# Altium footprint library M4QIDB-PCB-01.PcbLib: 64 footprints (part 4 of 4)
Each footprint in its own frame and in the unit in brackets; x right, y up, seen from the top. Pads: shape width x height; smd on the part's side, far side on the other; paste and mask are expansions set on the pad; w line width, h text height; cw(c..) or ccw(c..) is an arc to the next point about the centre after c.
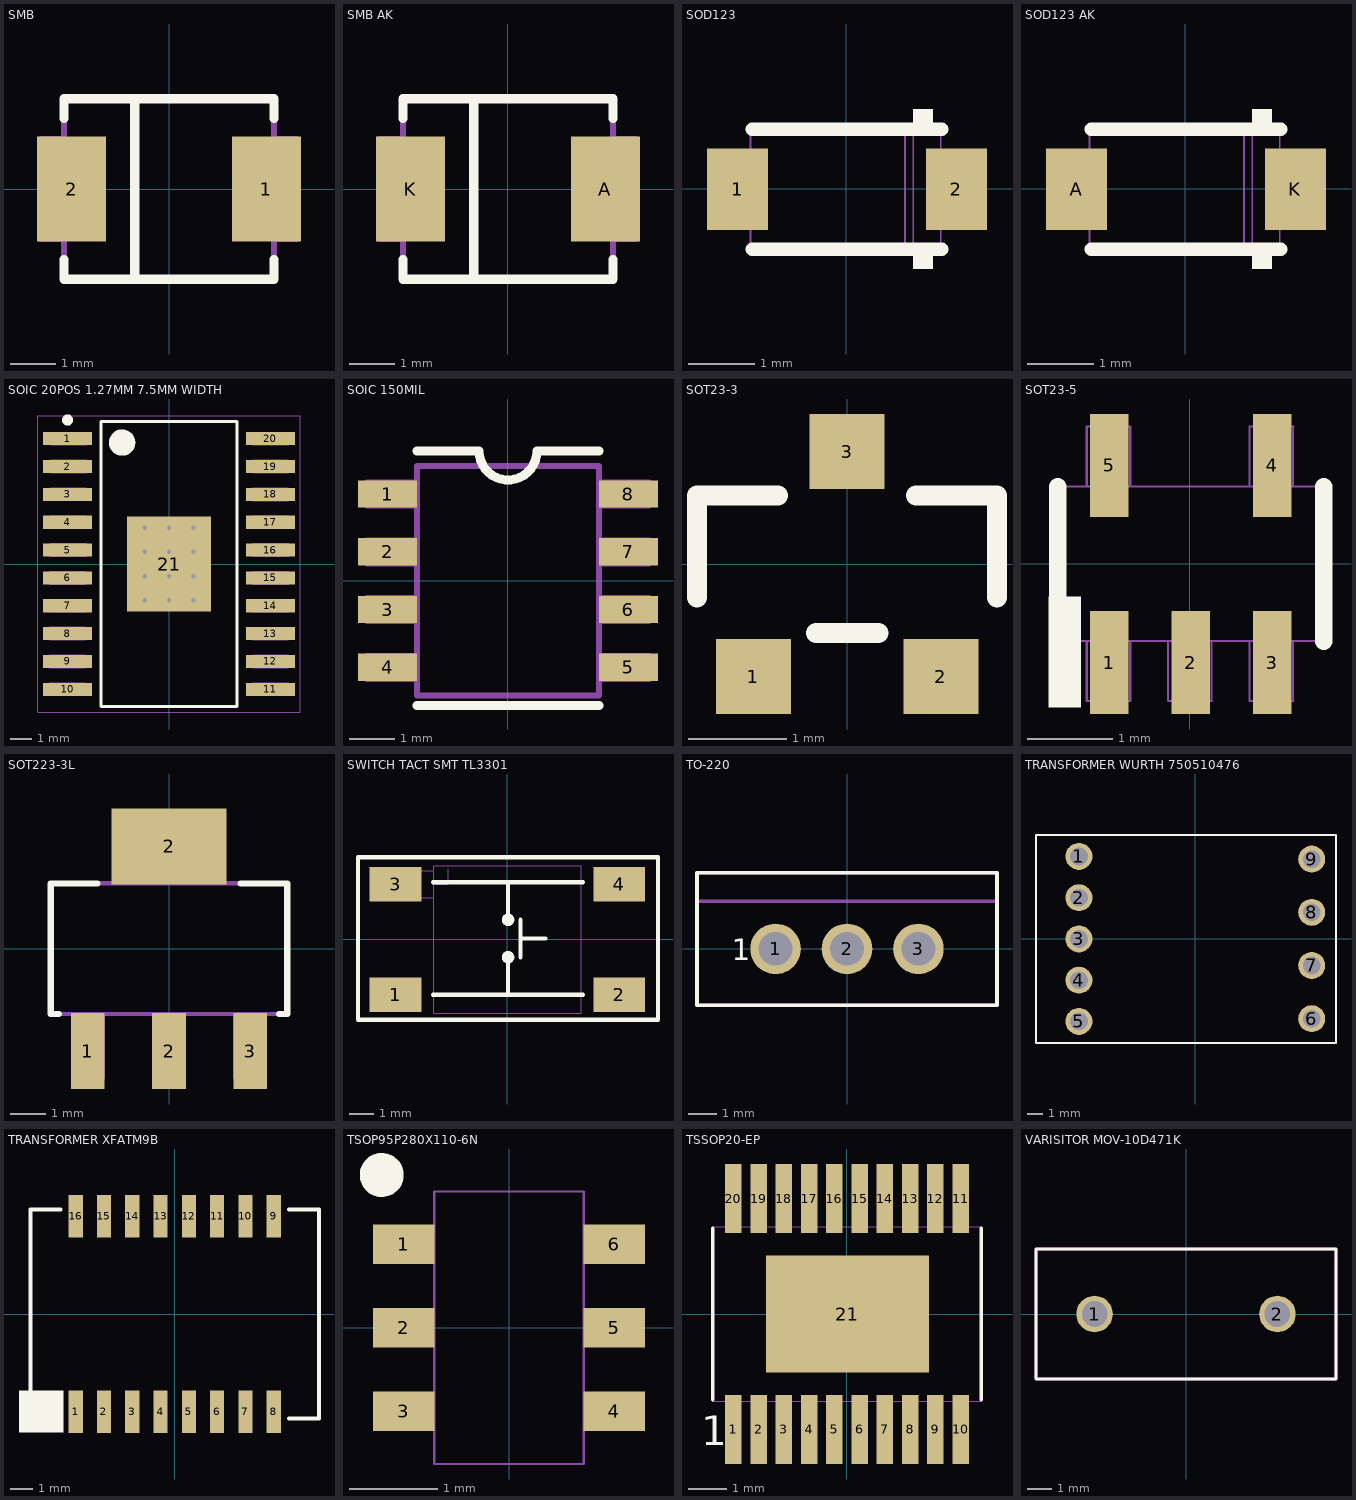
[diagram p3: the footprints below, top view; thin cyan lines are the x and y axes]

## SMB [mm]
pads (2):
  rect 1.52x2.3 smd: 1(2.135,0) 2(-2.135,0)
Top Overlay:
  lines w0.2: -0.75,-1.975 -0.75,1.975
  lines w0.203: -2.3,-1.543 -2.3,-1.975 2.3,-1.975 2.3,-1.543 ; -2.3,1.543 -2.3,1.975 2.3,1.975 2.3,1.543
Mechanical 7:
  lines w0.127: -2.311,-1.1 -2.8,-1.1 -2.8,1.1 -2.308,1.1 -2.3,1.092 ; 2.308,-1.1 2.8,-1.1 2.8,1.1 2.311,1.1 ; -2.3,-1.975 -2.3,1.975 2.3,1.975 2.3,-1.975 -2.3,-1.975
3D body: height 1.2, standoff 0, extent 2.308,-1.1 2.8,1.1
3D body: height 1.2, standoff 0, extent -2.8,-1.1 -2.308,1.1
3D body: height 2.65, standoff 2.65, extent -1.473,-1.975 -1.321,1.975
3D body: height 2.65, standoff 0, extent -2.3,-1.975 2.3,1.975

## SMB AK [mm]
pads (2):
  rect 1.52x2.3 smd: A(2.135,0) K(-2.135,0)
Top Overlay:
  lines w0.2: -0.75,-1.975 -0.75,1.975
  lines w0.203: -2.3,-1.543 -2.3,-1.975 2.3,-1.975 2.3,-1.543 ; -2.3,1.543 -2.3,1.975 2.3,1.975 2.3,1.543
Mechanical 7:
  lines w0.127: -2.311,-1.1 -2.8,-1.1 -2.8,1.1 -2.308,1.1 -2.3,1.092 ; 2.308,-1.1 2.8,-1.1 2.8,1.1 2.311,1.1 ; -2.3,-1.975 2.3,-1.975 2.3,1.975 -2.3,1.975 -2.3,-1.975
3D body: height 2.65, standoff 0, extent -2.3,-1.975 2.3,1.975
3D body: height 2.65, standoff 2.65, extent -1.473,-1.975 -1.321,1.975
3D body: height 1.2, standoff 0, extent -2.8,-1.1 -2.308,1.1
3D body: height 1.2, standoff 0, extent 2.308,-1.1 2.8,1.1

## SOD123 [mil]
pads (2):
  rect 36x48 smd: 1(-64.09,-0.13) 2(64.91,-0.13)
Top Overlay:
  rectangle: 39.37,-47.24 51.18,-35.63
  rectangle: 39.37,35.37 51.18,47.24
  lines w8: -55.59,-35.63 56.41,-35.63 ; -55.59,35.37 56.41,35.37 ; 31.91,-35.63 35.85,-35.63
Mechanical 7:
  lines w1: -56.51,-9.81 -56.51,-10.63 -76.2,-10.63 -76.2,11.02 -56.51,11.02 -56.51,10.19 ; 34.59,-33.4 34.59,33.66 ; 39.59,-33.4 39.59,33.66 ; 55.69,-9.81 55.69,-10.63 75.38,-10.63 75.38,11.02 55.69,11.02 55.69,10.19 ; -56.51,-33.4 -56.51,33.53 -56.51,33.66 55.69,33.66 55.69,-33.27 55.69,-33.4 -56.51,-33.4
3D body: height 57.09, standoff 3.94, extent 39.59,-33.4 55.69,33.66
3D body: height 57.09, standoff 3.94, extent -56.51,-33.4 34.59,33.59
3D body: height 57.09, standoff 39.37, extent -56.51,33.59 34.59,33.66
3D body: height 57.09, standoff 3.94, extent 34.59,-33.4 39.59,33.66
3D body: height 13.78, standoff 0, extent -76.2,-10.63 -56.51,11.02
3D body: height 13.78, standoff 0, extent 55.69,-10.63 75.38,11.02

## SOD123 AK [mil]
pads (2):
  rect 36x48 smd: A(-64.09,-0.13) K(64.91,-0.13)
Top Overlay:
  rectangle: 39.37,35.37 51.18,47.24
  rectangle: 39.37,-47.24 51.18,-35.63
  lines w8: -55.59,-35.63 56.41,-35.63 ; -55.59,35.37 56.41,35.37 ; 31.91,-35.63 35.85,-35.63
Mechanical 7:
  lines w1: -56.51,-9.81 -56.51,-10.63 -76.2,-10.63 -76.2,11.02 -56.51,11.02 -56.51,10.19 ; 34.59,-33.4 34.59,33.66 ; 39.59,-33.4 39.59,33.66 ; 55.69,-9.81 55.69,-10.63 75.38,-10.63 75.38,11.02 55.69,11.02 55.69,10.19 ; -56.51,-33.4 55.69,-33.4 55.69,-33.27 55.69,33.66 -56.51,33.66 -56.51,33.53 -56.51,-33.4
3D body: height 13.78, standoff 0, extent 55.69,-10.63 75.38,11.02
3D body: height 13.78, standoff 0, extent -76.2,-10.63 -56.51,11.02
3D body: height 57.09, standoff 3.94, extent 34.59,-33.4 39.59,33.66
3D body: height 57.09, standoff 39.37, extent -56.51,33.59 34.59,33.66
3D body: height 57.09, standoff 3.94, extent -56.51,-33.4 34.59,33.59
3D body: height 57.09, standoff 3.94, extent 39.59,-33.4 55.69,33.66

## SOIC 20POS 1.27MM 7.5MM WIDTH [mm] "SOIC, 20-Leads, Body 12.82x7.52mm, Pitch 1.27mm, Thermal Pad 4.32.2x3.81.2mm, IPC Medium Density"
height 2.65
pads (21):
  rect 2.25x0.6 smd: 1(-4.625,5.715) 2(-4.625,4.445) 3(-4.625,3.175) 4(-4.625,1.905) 5(-4.625,0.635) 6(-4.625,-0.635) 7(-4.625,-1.905) 8(-4.625,-3.175) 9(-4.625,-4.445) 10(-4.625,-5.715) 11(4.625,-5.715) 12(4.625,-4.445) 13(4.625,-3.175) 14(4.625,-1.905) 15(4.625,-0.635) 16(4.625,0.635) 17(4.625,1.905) 18(4.625,3.175) 19(4.625,4.445) 20(4.625,5.715)
  rect 3.81x4.32 smd: 21(0,0)
via -1.1,1.65 diameter 0.5 hole 0.2
via 0,1.65 diameter 0.5 hole 0.2
via 1.1,1.65 diameter 0.5 hole 0.2
via -1.1,0.55 diameter 0.5 hole 0.2
via 0,0.55 diameter 0.5 hole 0.2
via 1.1,0.55 diameter 0.5 hole 0.2
via -1.1,-0.55 diameter 0.5 hole 0.2
via 0,-0.55 diameter 0.5 hole 0.2
via 1.1,-0.55 diameter 0.5 hole 0.2
via -1.1,-1.65 diameter 0.5 hole 0.2
via 0,-1.65 diameter 0.5 hole 0.2
via 1.1,-1.65 diameter 0.5 hole 0.2
Top Overlay:
  circle w0.25: c-4.625,6.565 r0.125
  circle w0.6: c-2.137,5.536 r0.3
  lines w0.127: -3.1,-6.5 -3.1,6.5 3.1,6.5 3.1,-6.5 -3.1,-6.5
Mechanical 7:
  lines w0.127: -3.83,-5.965 -5.42,-5.965 -5.42,-5.465 -3.83,-5.465 ; -3.83,-4.695 -5.42,-4.695 -5.42,-4.195 -3.83,-4.195 ; -3.83,-3.425 -5.42,-3.425 -5.42,-2.925 -3.83,-2.925 ; -3.83,-2.155 -5.42,-2.155 -5.42,-1.655 -3.83,-1.655 ; -3.83,-0.885 -5.42,-0.885 -5.42,-0.385 -3.83,-0.385 ; -3.8,0.385 -5.39,0.385 -5.39,0.885 -3.8,0.885 ; -3.8,1.655 -5.39,1.655 -5.39,2.155 -3.8,2.155 ; -3.8,2.925 -5.39,2.925 -5.39,3.425 -3.8,3.425 ; -3.8,4.195 -5.39,4.195 -5.39,4.695 -3.8,4.695 ; -3.8,5.465 -5.39,5.465 -5.39,5.965 -3.8,5.965 ; 3.83,-5.965 5.42,-5.965 5.42,-5.465 3.83,-5.465 ; 3.83,-4.695 5.42,-4.695 5.42,-4.195 3.83,-4.195 ; 3.83,-3.425 5.42,-3.425 5.42,-2.925 3.83,-2.925 ; 3.83,-2.155 5.42,-2.155 5.42,-1.655 3.83,-1.655 ; 3.83,-0.885 5.42,-0.885 5.42,-0.385 3.83,-0.385 ; 3.83,0.385 5.42,0.385 5.42,0.885 3.83,0.885 ; 3.83,1.655 5.42,1.655 5.42,2.155 3.83,2.155 ; 3.83,2.925 5.42,2.925 5.42,3.425 3.83,3.425 ; 3.83,4.195 5.42,4.195 5.42,4.695 3.83,4.695 ; 3.83,5.465 5.42,5.465 5.42,5.965 3.83,5.965
Mechanical 15:
  lines w0.05: -5.975,-6.75 5.975,-6.75 5.975,6.75 -5.975,6.75 -5.975,-6.75
  lines w0.1: -0.5,0 0.5,0 ; 0,-0.5 0,0.5
3D body: height 2.65, standoff 0.25, extent -3.8,-6.5 3.8,6.5
3D body: height 2.66, standoff 2.65, extent -2.998,5.237 -2.4,5.836
3D body: height 1, standoff 0, extent -5.39,5.465 -3.8,5.965
3D body: height 1, standoff 0, extent -5.39,4.195 -3.8,4.695
3D body: height 1, standoff 0, extent -5.39,2.925 -3.8,3.425
3D body: height 1, standoff 0, extent -5.39,1.655 -3.8,2.155
3D body: height 1, standoff 0, extent -5.39,0.385 -3.8,0.885
3D body: height 1, standoff 0, extent -5.42,-5.965 -3.83,-5.465
3D body: height 1, standoff 0, extent -5.42,-4.695 -3.83,-4.195
3D body: height 1, standoff 0, extent -5.42,-3.425 -3.83,-2.925
3D body: height 1, standoff 0, extent -5.42,-2.155 -3.83,-1.655
3D body: height 1, standoff 0, extent -5.42,-0.885 -3.83,-0.385
3D body: height 1, standoff 0, extent 3.83,-0.885 5.42,-0.385
3D body: height 1, standoff 0, extent 3.83,-2.155 5.42,-1.655
3D body: height 1, standoff 0, extent 3.83,-3.425 5.42,-2.925
3D body: height 1, standoff 0, extent 3.83,-4.695 5.42,-4.195
3D body: height 1, standoff 0, extent 3.83,-5.965 5.42,-5.465
3D body: height 1, standoff 0, extent 3.83,5.465 5.42,5.965
3D body: height 1, standoff 0, extent 3.83,4.195 5.42,4.695
3D body: height 1, standoff 0, extent 3.83,2.925 5.42,3.425
3D body: height 1, standoff 0, extent 3.83,1.655 5.42,2.155
3D body: height 1, standoff 0, extent 3.83,0.385 5.42,0.885

## SOIC 150MIL [mm]
pads (8):
  rect 1.3x0.6 smd: 1(-2.65,1.905) 2(-2.65,0.635) 3(-2.65,-0.635) 4(-2.65,-1.905) 5(2.65,-1.905) 6(2.65,-0.635) 7(2.65,0.635) 8(2.65,1.905)
Top Overlay:
  lines w0.2: -2,-2.75 2,-2.75 ; -2,2.85 -0.635,2.85 ccw(c0,2.85) 0.635,2.85 2,2.85
Mechanical 1:
  text "VERIFY" at -1.575,-2.15 h1.02
Mechanical 7:
  lines w0.127: -2,-2.16 -3.1,-2.16 -3.1,-1.65 -2,-1.65 ; -2,-0.89 -3.1,-0.89 -3.1,-0.38 -2,-0.38 ; -2,0.38 -3.1,0.38 -3.1,0.89 -2,0.89 ; -2,1.65 -3.1,1.65 -3.1,2.16 -2,2.16 ; 2,-2.16 3.1,-2.16 3.1,-1.65 2,-1.65 ; 2,-0.89 3.1,-0.89 3.1,-0.38 2,-0.38 ; 2,0.38 3.1,0.38 3.1,0.89 2,0.89 ; 2,1.65 3.1,1.65 3.1,2.16 2,2.16 ; -2,-2.525 -2,2.525 2,2.525 2,-2.525 -2,-2.525
3D body: height 1.76, standoff 1.75, extent -1.598,1.601 -1.001,2.199
3D body: height 0.87, standoff 0, extent 2,1.65 3.1,2.16
3D body: height 0.87, standoff 0, extent 2,0.38 3.1,0.89
3D body: height 0.87, standoff 0, extent 2,-0.89 3.1,-0.38
3D body: height 0.87, standoff 0, extent 2,-2.16 3.1,-1.65
3D body: height 0.87, standoff 0, extent -3.1,-2.16 -2,-1.65
3D body: height 0.87, standoff 0, extent -3.1,-0.89 -2,-0.38
3D body: height 0.87, standoff 0, extent -3.1,0.38 -2,0.89
3D body: height 0.87, standoff 0, extent -3.1,1.65 -2,2.16
3D body: height 1.75, standoff 0.2, extent -2,-2.525 2,2.525

## SOT23-3 [mil]
pads (3):
  rect 30x30 smd: 1(-37.5,-45) 2(37.5,-45) 3(0,45)
Top Overlay:
  lines w8: -60,-13.31 -60,27.5 -27.62,27.5 ; -12.4,-27.5 12.6,-27.5 ; 27.62,27.5 60,27.5 60,-13.31
3D body: height 57.09, standoff 5.91, extent -61.12,-35.15 60.93,35.71
3D body: height 10.24, standoff 0, extent -47.5,-62.71 -27.5,-35.15
3D body: height 10.24, standoff 0, extent 27.31,-62.71 47.31,-35.15
3D body: height 10.24, standoff 0, extent -10,35.44 10,63

## SOT23-5 [mm]
pads (5):
  rect 0.45x1.2 smd: 1(-0.94,-1.153) 2(0.011,-1.153) 3(0.96,-1.153) 4(0.96,1.147) 5(-0.94,1.147)
Top Overlay:
  rectangle: -1.651,-1.676 -1.27,-0.381
  lines w0.203: -1.54,-0.903 -1.54,0.897 ; 1.561,-0.903 1.561,0.897
Mechanical 7:
  lines w0.025: -1.205,-1.6 -0.695,-1.6 ; -1.205,1.6 -0.695,1.6 ; -1.204,-1.6 -1.204,-0.9 ; -1.204,0.9 -1.204,1.6 ; -0.696,-1.6 -0.696,-0.9 ; -0.696,0.9 -0.696,1.6 ; -0.254,-0.9 -0.254,-1.6 -0.255,-1.6 0.255,-1.6 0.254,-1.6 0.254,-0.9 ; 0.695,-1.6 1.205,-1.6 ; 0.695,1.6 1.205,1.6 ; 0.696,-1.6 0.696,-0.9 ; 0.696,0.9 0.696,1.6 ; 1.204,-1.6 1.204,-0.9 ; 1.204,0.9 1.204,1.6 ; -1.55,-0.9 1.55,-0.9 1.55,0.9 -1.55,0.9 -1.55,-0.9
3D body: height 1.5, standoff 1.45, extent -1.251,-0.602 -0.851,-0.204
3D body: height 1.45, standoff 0.15, extent -1.55,-0.9 1.55,0.9
3D body: height 0.26, standoff 0, extent -1.204,-1.6 -0.696,-0.9
3D body: height 0.26, standoff 0, extent -0.254,-1.6 0.254,-0.9
3D body: height 0.26, standoff 0, extent 0.696,-1.6 1.204,-0.9
3D body: height 0.26, standoff 0, extent 0.696,0.9 1.204,1.6
3D body: height 0.26, standoff 0, extent -1.204,0.9 -0.696,1.6

## SOT223-3L [mm]
pads (4):
  rect 0.95x2.15 smd: 1(-2.3,-2.9) 2(0,-2.9) 3(2.3,-2.9)
  rect 3.25x2.15 smd: 2(0,2.9)
Top Overlay:
  lines w0.178: -3.125,-1.85 -3.35,-1.85 -3.35,1.85 -2.025,1.85 ; 2.025,1.85 3.35,1.85 3.35,-1.85 3.125,-1.85
Mechanical 7:
  lines w0.127: -2.72,-1.85 -2.72,-3.65 -1.88,-3.65 -1.88,-1.85 ; -1.55,1.85 -1.55,3.65 1.55,3.65 1.55,1.85 ; -0.42,-1.85 -0.42,-3.65 0.42,-3.65 0.42,-1.85 ; 1.88,-1.85 1.88,-3.65 2.72,-3.65 2.72,-1.85 ; -3.35,-1.85 -3.35,1.85 3.35,1.85 3.35,-1.85 -3.35,-1.85
3D body: height 0.7, standoff 0, extent -2.72,-3.65 -1.88,-1.85
3D body: height 0.7, standoff 0, extent 1.88,-3.65 2.72,-1.85
3D body: height 0.7, standoff 0, extent -1.55,1.85 1.55,3.65
3D body: height 1.8, standoff 0, extent -3.35,-1.85 3.35,1.85
3D body: height 0.7, standoff 0, extent -0.42,-3.65 0.42,-1.85
3D body: height 1.81, standoff 1.8, extent -2.697,-1.299 -1.9,-0.501

## SWITCH TACT SMT TL3301 [mil]
pads (4):
  rect 83x55 smd: 1(-179,-88.5) 2(179,-88.5) 3(-179,88.5) 4(179,88.5)
Top Overlay:
  circle w10: c1,31.5 r5
  circle w10: c1,-28.5 r5
  lines w7: -119,-88.5 121,-88.5 ; -119,91.5 121,91.5 ; 1,-88.5 1,-28.5 ; 1,31.5 1,91.5 ; 21,-28.5 21,31.5 ; 21,1.5 61,1.5 ; -239,-128.5 -239,131.5 241,131.5 241,-128.5 -239,-128.5
Mechanical 7:
  lines w1: -165,67 -165,110 ; -145,67 -145,110 ; -118.11,70 -118.11,67 -200,67 -200,110 -118.11,110 ; -118.11,88.5 -94.48,88.5 -94.48,112.13 ; -118.11,-118.11 -118.11,118.11 118.11,118.11 118.11,-118.11 -118.11,-118.11
3D body: height 141.73, standoff 137.8, extent -118.11,-118.11 118.11,118.11
3D body: height 137.8, standoff 0, extent -118.11,-118.11 118.11,118.11
3D body: height 23.62, standoff 0, extent -200,67 -145,110
3D body: height 47.24, standoff 15.75, extent -165,67 -118.11,110
3D body: height 47.24, standoff 15.75, extent -165,-110 -118.11,-67
3D body: height 23.62, standoff 0, extent -200,-110 -145,-67
3D body: height 47.24, standoff 15.75, extent 118.11,-110 165,-67
3D body: height 23.62, standoff 0, extent 145,-110 200,-67
3D body: height 47.24, standoff 15.75, extent 118.11,67 165,110
3D body: height 23.62, standoff 0, extent 145,67 200,110
3D body: height 200.79, standoff 19.68, extent -78.12,-78.58 78.74,78.59
3D body: height 173.23, standoff 19.68, extent -106.2,76.72 -82.67,100.3
3D body: height 173.23, standoff 19.68, extent -106.2,-100.28 -82.67,-76.7
3D body: height 173.23, standoff 19.68, extent 82.67,-100.29 106.2,-76.71
3D body: height 173.23, standoff 19.68, extent 82.67,76.71 106.2,100.28

## TO-220 [mm]
height 16.3
pads (3):
  round 1.8 hole 1.2: 1(-2.54,0) 2(0,0) 3(2.54,0)
Top Overlay:
  lines w0.127: -5.335,-2 -5.335,2.7 5.335,2.7 5.335,-2 -5.335,-2
  text "1" at -4.1,-0.4 h0.76
Mechanical 7:
  lines w0.127: -5.335,1.7 5.335,1.7 ; -3,0.2 -2.1,0.2 ; -0.45,0.2 0.45,0.2 ; 2.09,0.2 2.99,0.2 ; -5.335,-2 5.335,-2 5.335,2.7 -5.335,2.7 -5.335,-2 ; -3.2,-0.2 -1.9,-0.2 -1.9,0.2 -3.2,0.2 -3.2,-0.2 ; -0.65,-0.2 -0.65,0.2 0.65,0.2 0.65,-0.2 -0.65,-0.2 ; 1.89,-0.2 1.89,0.2 3.19,0.2 3.19,-0.2 1.89,-0.2
3D body: height 3, standoff 0, extent -3.2,-0.2 -1.9,0.2
3D body: height 0, standoff -11, extent -2.9,-0.2 -2.2,0.2
3D body: height 0, standoff -11, extent -0.35,-0.2 0.35,0.2
3D body: height 3, standoff 0, extent -0.65,-0.2 0.65,0.2
3D body: height 0, standoff -11, extent 2.19,-0.2 2.89,0.2
3D body: height 3, standoff 0, extent 1.89,-0.2 3.19,0.2
3D body: height 11.5, standoff 3, extent -5.335,-2 5.335,2.7
3D body: height 16.3, standoff 11.5, extent -5.335,1.7 5.335,2.7

## TRANSFORMER WURTH 750510476 [mil]
pads (9):
  round 70 hole 46 paste+0: 1(-302,214) 2(-302,107) 3(-302,0) 4(-302,-107) 5(-302,-214) 6(302,-207) 7(302,-69) 8(302,69) 9(302,207)
Top Overlay:
  lines w5: 364.96,-270.51 364.96,269.49 ; 364.96,-270 -413.39,-270 -413.39,270 364.96,270
3D body: height 400, standoff -102.36, extent -410.24,-270.67 364.96,269.49

## TRANSFORMER XFATM9B [mil]
height 245
pads (16):
  rect 25x75 smd: 1(-175,-172.5) 2(-125,-172.5) 3(-75,-172.5) 4(-25,-172.5) 5(25,-172.5) 6(75,-172.5) 7(125,-172.5) 8(175,-172.5) 9(175,172.5) 10(125,172.5) 11(75,172.5) 12(25,172.5) 13(-25,172.5) 14(-75,172.5) 15(-125,172.5) 16(-175,172.5)
Top Overlay:
  rectangle: -275.19,-209.82 -196.45,-135.01
  lines w7: -201.81,-185 -255,-185 -255,185 -201.81,185 ; 201.81,-185 255,-185 255,185 201.81,185

## TSOP95P280X110-6N [mm] "TSOP, 6-Leads, Body 3.1x1.7mm (max), Pitch 0.95mm, IPC Medium Density"
height 1.1
pads (6):
  rect 0.7x0.45 smd: 1(-1.2,0.95) 2(-1.2,0) 3(-1.2,-0.95) 4(1.2,-0.95) 5(1.2,0) 6(1.2,0.95)
Top Overlay:
  circle w0.25: c-1.448,1.739 r0.125
Mechanical 7:
  lines w0.025: -0.85,-1.15 -1.5,-1.15 -1.5,-0.75 -0.85,-0.75 ; -0.85,-0.2 -1.5,-0.2 -1.5,0.2 -0.85,0.2 ; -0.85,0.75 -1.5,0.75 -1.5,1.15 -0.85,1.15 ; 0.85,-1.15 1.5,-1.15 1.5,-0.75 0.85,-0.75 ; 0.85,-0.2 1.5,-0.2 1.5,0.2 0.85,0.2 ; 0.85,0.75 1.5,0.75 1.5,1.15 0.85,1.15 ; -0.85,-1.55 -0.85,1.55 0.85,1.55 0.85,-1.55 -0.85,-1.55
3D body: height 0.26, standoff 0, extent -1.5,0.75 -0.85,1.15
3D body: height 1.1, standoff 0.1, extent -0.85,-1.55 0.85,1.55
3D body: height 0.26, standoff 0, extent -1.5,-0.2 -0.85,0.2
3D body: height 0.26, standoff 0, extent -1.5,-1.15 -0.85,-0.75
3D body: height 0.26, standoff 0, extent 0.85,-1.15 1.5,-0.75
3D body: height 0.26, standoff 0, extent 0.85,-0.2 1.5,0.2
3D body: height 0.26, standoff 0, extent 0.85,0.75 1.5,1.15
3D body: height 1.25, standoff 1.2, extent -0.846,0.551 0.15,1.549

## TSSOP20-EP [mm]
pads (21):
  rect 0.42x1.78 smd: 1(-2.925,-2.97) 2(-2.275,-2.97) 3(-1.625,-2.97) 4(-0.975,-2.97) 5(-0.325,-2.97) 6(0.325,-2.97) 7(0.975,-2.97) 8(1.625,-2.97) 9(2.275,-2.97) 10(2.925,-2.97) 11(2.925,2.97) 12(2.275,2.97) 13(1.625,2.97) 14(0.975,2.97) 15(0.325,2.97) 16(-0.325,2.97) 17(-0.975,2.97) 18(-1.625,2.97) 19(-2.275,2.97) 20(-2.925,2.97)
  rect 4.2x3 smd: 21(0.01,0)
Top Overlay:
  lines w0.1: -3.454,-2.2 -3.454,0 -3.454,2.2 ; 3.454,-2.2 3.454,0 3.454,2.2
  text "1" at -3.75,-3.375 h0.76
Mechanical 7:
  lines w0.025: -1.125,2.25 -1.125,3.2 -0.825,3.2 -0.825,2.25 ; -1.125,2.54 -0.825,2.54 ; -1.125,2.91 -0.825,2.91 ; -0.475,-2.91 -0.175,-2.91 ; -0.475,-2.54 -0.175,-2.54 ; -0.475,-2.25 -0.475,-3.2 -0.175,-3.2 -0.175,-2.25 ; -3.45,-2.25 3.454,-2.25 3.454,2.25 -3.45,2.25 -3.45,-2.25
3D body: height 0.4, standoff 0, extent 2.775,2.54 3.075,3.2
3D body: height 0.6, standoff 0.2, extent 2.775,2.25 3.075,2.91
3D body: height 0.4, standoff 0, extent 2.125,2.54 2.425,3.2
3D body: height 0.6, standoff 0.2, extent 2.125,2.25 2.425,2.91
3D body: height 0.4, standoff 0, extent 2.775,-3.2 3.075,-2.54
3D body: height 0.6, standoff 0.2, extent 2.775,-2.91 3.075,-2.25
3D body: height 0.4, standoff 0, extent 2.125,-3.2 2.425,-2.54
3D body: height 0.6, standoff 0.2, extent 2.125,-2.91 2.425,-2.25
3D body: height 1.25, standoff 1.2, extent -3.024,-2.021 -2.026,-1.025
3D body: height 0.4, standoff 0, extent -0.475,-3.2 -0.175,-2.54
3D body: height 0.6, standoff 0.2, extent -0.475,-2.91 -0.175,-2.25
3D body: height 1.2, standoff 0.15, extent -3.45,-2.25 3.45,2.25
3D body: height 0.6, standoff 0.2, extent -1.125,-2.91 -0.825,-2.25
3D body: height 0.4, standoff 0, extent -1.125,-3.2 -0.825,-2.54
3D body: height 0.6, standoff 0.2, extent -1.775,-2.91 -1.475,-2.25
3D body: height 0.4, standoff 0, extent -1.775,-3.2 -1.475,-2.54
3D body: height 0.6, standoff 0.2, extent -2.425,-2.91 -2.125,-2.25
3D body: height 0.4, standoff 0, extent -2.425,-3.2 -2.125,-2.54
3D body: height 0.6, standoff 0.2, extent -3.075,-2.91 -2.775,-2.25
3D body: height 0.4, standoff 0, extent -3.075,-3.2 -2.775,-2.54
3D body: height 0.6, standoff 0.2, extent 0.175,-2.91 0.475,-2.25
3D body: height 0.4, standoff 0, extent 0.175,-3.2 0.475,-2.54
3D body: height 0.6, standoff 0.2, extent 0.825,-2.91 1.125,-2.25
3D body: height 0.4, standoff 0, extent 0.825,-3.2 1.125,-2.54
3D body: height 0.6, standoff 0.2, extent 1.475,-2.91 1.775,-2.25
3D body: height 0.4, standoff 0, extent 1.475,-3.2 1.775,-2.54
3D body: height 0.4, standoff 0, extent -3.075,2.54 -2.775,3.2
3D body: height 0.6, standoff 0.2, extent -3.075,2.25 -2.775,2.91
3D body: height 0.4, standoff 0, extent -2.425,2.54 -2.125,3.2
3D body: height 0.6, standoff 0.2, extent -2.425,2.25 -2.125,2.91
3D body: height 0.4, standoff 0, extent -1.775,2.54 -1.475,3.2
3D body: height 0.6, standoff 0.2, extent -1.775,2.25 -1.475,2.91
3D body: height 0.4, standoff 0, extent 1.475,2.54 1.775,3.2
3D body: height 0.6, standoff 0.2, extent 1.475,2.25 1.775,2.91
3D body: height 0.4, standoff 0, extent 0.825,2.54 1.125,3.2
3D body: height 0.6, standoff 0.2, extent 0.825,2.25 1.125,2.91
3D body: height 0.4, standoff 0, extent 0.175,2.54 0.475,3.2
3D body: height 0.6, standoff 0.2, extent 0.175,2.25 0.475,2.91
3D body: height 0.4, standoff 0, extent -0.475,2.54 -0.175,3.2
3D body: height 0.6, standoff 0.2, extent -0.475,2.25 -0.175,2.91
3D body: height 0.6, standoff 0.2, extent -1.125,2.25 -0.825,2.91
3D body: height 0.4, standoff 0, extent -1.125,2.54 -0.825,3.2

## VARISITOR MOV-10D471K [mil]
height 610.24
pads (2):
  round 60 hole 42: 1(-150,0) 2(150,0)
Top Overlay:
  lines w5: -246.06,-106.3 246.06,-106.3 246.06,106.3 -246.06,106.3 -246.06,-106.3
Mechanical 7:
  lines w5: -246.06,-106.3 -246.06,106.3 246.06,106.3 246.06,-106.3 -246.06,-106.3
3D body: height 0, standoff -118.11, extent 132.43,-17.67 167.72,17.69
3D body: height 0, standoff -118.11, extent -167.57,-17.68 -132.28,17.68
3D body: height 610.24, standoff 0, extent -246.06,-106.3 246.06,106.3